# EAGLE library part MTCH102 (library mtch102)
MTCH102 2-Channel Proximity/Touch Controller <http://ww1.microchip.com/downloads/en/DeviceDoc/40001793C.pdf> The Microchip mTouch MTCH102/5/8 Proximity/Touch Controller with simple digital output provides an easy way to add proximity or touch detection to any application. This device family implements capacitive sensors with active guarding capability. The sensitivity and power mode can be configured through the MTSA and MTPM pins. The MTCH102/5/8 devices also use an advanced optimization algorithm to actively suppress noise from the signal to achieve reliable proximity/touch detection.
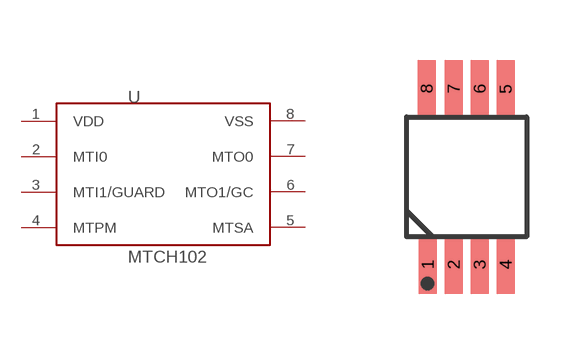
[diagram p0: symbol with the pads of MSOP; footprint MSOP]

Designator prefix U

## MTCH102SMD  [MSOP]
1  VDD  pwr
2  MTI0  in
3  MTI1/GUARD  in
4  MTPM  in
5  MTSA  in
6  MTO1/GC  out
7  MTO0  out
8  VSS  pwr

## Footprint MSOP (pad centres in mm)
smd 0.45 x 1.45: 1 -0.975,-2.2; 2 -0.325,-2.2; 3 0.325,-2.2; 4 0.975,-2.2; 5 0.975,2.2; 6 0.325,2.2; 7 -0.325,2.2; 8 -1,2.2